# EAGLE library part HTRC11001 (library Tag Reader)
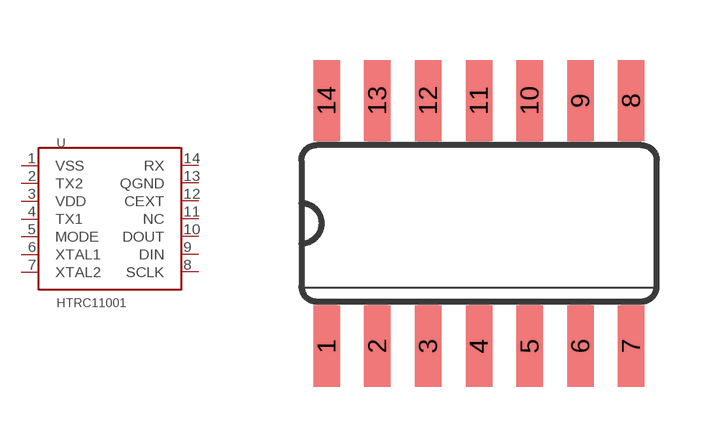
[diagram p2: symbol with the pads of 14-SOIC; footprint 14-SOIC]

Designator prefix U

## HTRC11001  [14-SOIC]
1  VSS
2  TX2
3  VDD
4  TX1
5  MODE
6  XTAL1
7  XTAL2
8  SCLK
9  DIN
10  DOUT
11  NC
12  CEXT
13  QGND
14  RX

## Footprint 14-SOIC (pad centres in mm)
smd 0.66 x 2.032: 1 -3.81,-3.073; 2 -2.54,-3.073; 3 -1.27,-3.073; 4 0,-3.073; 5 1.27,-3.073; 6 2.54,-3.073; 7 3.81,-3.073; 8 3.81,3.073; 9 2.54,3.073; 10 1.27,3.073; 11 0,3.073; 12 -1.27,3.073; 13 -2.54,3.073; 14 -3.81,3.073